# EAGLE library part TS-TSMD5050RGB (library pimoroni-optoelectronics)
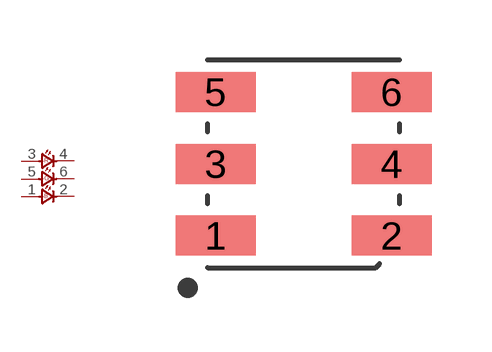
[diagram p0: symbol with the pads of LED-5050; footprint LED-5050]

Designator prefix -

## TS-TSMD5050RGB  [LED-5050]
1  BA
2  BC
3  RA
4  RC
5  GA
6  GC

## Footprint LED-5050 (pad centres in mm)
smd 2 x 1: 1 -2.2,-1.8; 2 2.2,-1.8; 3 -2.2,0; 4 2.2,0; 5 -2.2,1.8; 6 2.2,1.8